# EAGLE library part OPA4330 (library texas)
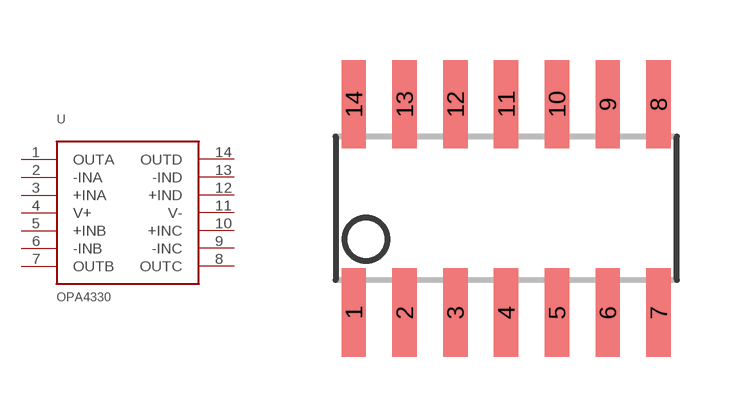
[diagram p4: symbol with the pads of SO14; footprint SO14]

Designator prefix -

## OPA4330D  [SO14]
1  OUTA  out
2  -INA  in
3  +INA  in
4  V+  pwr
5  +INB  in
6  -INB  in
7  OUTB  out
8  OUTC  out
9  -INC  in
10  +INC  in
11  V-  pwr
12  +IND  in
13  -IND  in
14  OUTD  out

## Footprint SO14 (pad centres in mm)
Small Outline Package
smd 0.61 x 2.21: 1 -3.81,-2.603; 2 -2.54,-2.603; 3 -1.27,-2.603; 4 0,-2.603; 5 1.27,-2.603; 6 2.54,-2.603; 7 3.81,-2.603; 8 3.81,2.603; 9 2.54,2.603; 10 1.27,2.603; 11 0,2.603; 12 -1.27,2.603; 13 -2.54,2.603; 14 -3.81,2.603